# Altium integrated library Analog Devices Data Converters Analog-to-Digital Converters.IntLib: 2404 symbols (part 292 of 346)
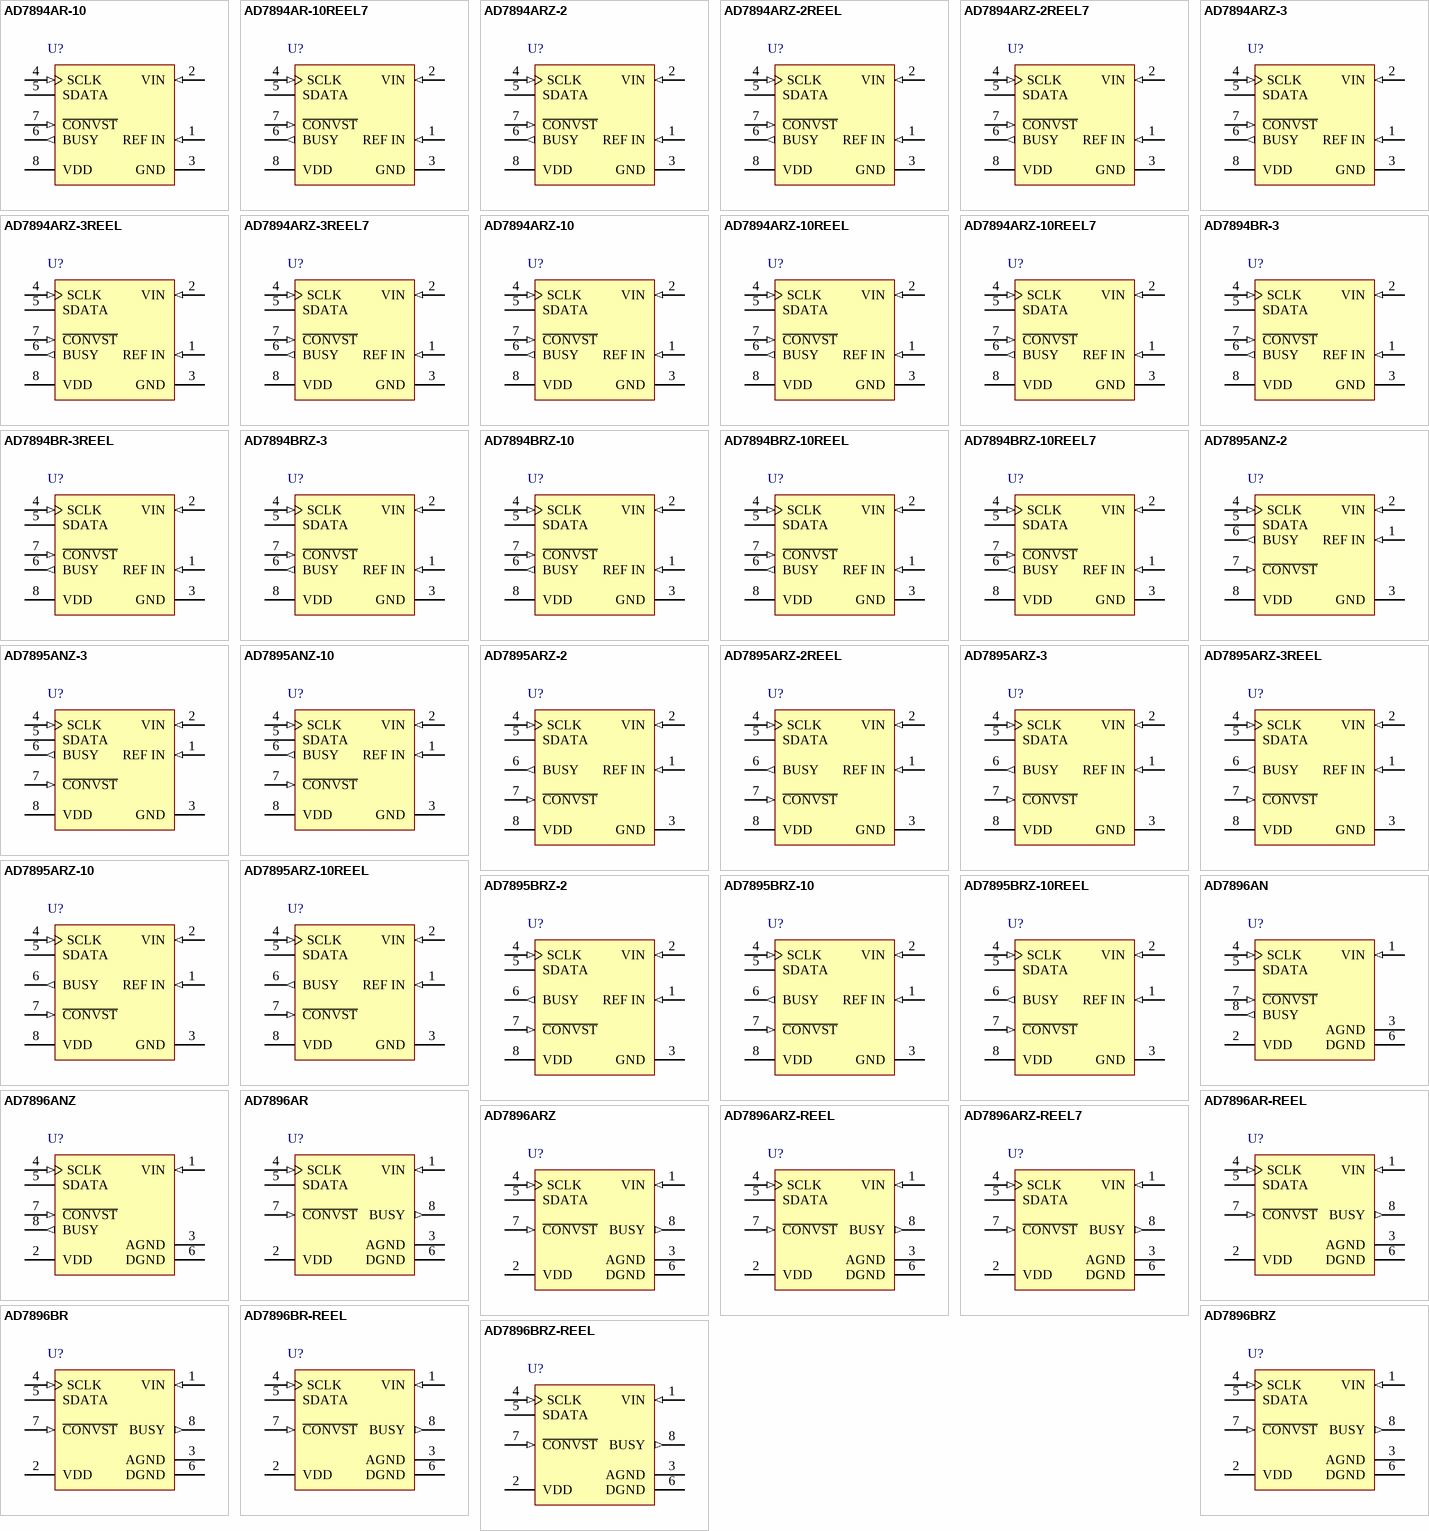
[diagram p411: symbols AD7894AR-10 to AD7896BRZ-REEL]

## AD7894AR-10REEL7
designator U?
Single 14-Bit Analog-to-Digital Converter with Serial Interface, 5 us, 200KSPS, -40 to +85 degC, R-8, Reel; Generic Part Number: AD7894; Manufacturer: Analog Devices; PartNumber: AD7894AR-10REEL7; Resolution (Bits): 14; Channels: 1; Throughput Rate (SPS): 200K; Interface: Ser; DatasheetVersion: Rev.0; PackageVersion: 060506-A; PackageReference: R-8; PackageDescription: 8-Lead Standard Small Outline Package [SOIC_N] Narrow Body; Supplier 1: Digi-Key; Supplier Part Number 1: AD7894AR-10REEL7-ND; Supplier 2: Mouser; Supplier Part Number 2: 584-AD7894AR-10R7; RoHS: N; Packing: Reel; Mounting Technology: Surface Mount; Code_JEDEC: MS-012-AA; Code_IPC: SOIC127P600-8; ComponentLink1Description: Manufacturer URL; ComponentLink1URL: http://www.analog.com/en/index.html; ComponentLink2Description: Datasheet; ComponentLink2URL: http://www.analog.com/static/imported-files/data_sheets/AD7894.pdf; ComponentLink3Description: Package Specification; ComponentLink3URL: http://www.analog.com/static/imported-files/packages/PKG_PDF/SOIC_Narrow%20(R)/R_8.pdf; ComponentLink4Description: Product URL; ComponentLink4URL: http://www.analog.com/en/analog-to-digital-converters/ad-converters/ad7894/products/product.html
footprint R-8_N (SOIC, 8-Leads, Body 4.9x3.9mm, Pitch 1.27mm, IPC Medium Density)
footprint R-8_L (SOIC, 8-Leads, Body 4.9x3.9mm, Pitch 1.27mm, IPC High Density)
footprint R-8_M (SOIC, 8-Leads, Body 4.9x3.9mm, Pitch 1.27mm, IPC Low Density)
pins: 1 REF IN (in) "Voltage Reference Input. An external reference source should be connected to this pin to provide the reference voltage for the AD7894’s conversion process. The REF IN input is buffered on-chip. The nominal reference voltage (See Datasheet)", 2 VIN (in) "Analog Input Channel. The analog input range is +/-10 V (AD7894-10), +/-2.5 V (AD7894-3) and 0 V to +2.5ÊV (AD7894-2).", 3 GND (power) "Analog Ground. Ground reference for track/hold, comparator, digital circuitry and DAC.", 4 SCLK (in) "SCLK Serial Clock Input. An external serial clock is applied to this input to obtain serial data from the AD7894.A new serial data bit is clocked out on the falling edge of this serial clock. Data is guaranteed valid for 10 (See Datasheet)", 5 SDATA (hiz) "Serial Data Output. Serial data from the AD7894 is provided at this output. The serial data is clocked out by the falling edge of SCLK, but the data can also be read on the falling edge of SCLK. This is possible because data (See Datasheet)", 6 BUSY (out) "The BUSY pin is used to indicate when the part is doing a conversion. The BUSY pin will go high on the falling edge of CONVST and will return low when the conversion is complete.", 7 ~{CONVST} (in) "Conversion Start. Edge-triggered logic input. On the falling edge of this input, the track/hold goes into its 7 CONVST Conversion Start. Edge-triggered logic input. On the falling edge of this input, the track/hold goes into (See Datasheet)", 8 VDD (power) "Positive supply voltage, +5 V +/- 5%."

## AD7894ARZ-2
designator U?
Single 14-Bit Analog-to-Digital Converter with Serial Interface, 5 us, 200KSPS, -40 to +85 degC, R-8, Pb-Free, Tube; Generic Part Number: AD7894; Manufacturer: Analog Devices; PartNumber: AD7894ARZ-2; Resolution (Bits): 14; Channels: 1; Throughput Rate (SPS): 200K; Interface: Ser; DatasheetVersion: Rev.0; PackageVersion: 060506-A; PackageReference: R-8; PackageDescription: 8-Lead Standard Small Outline Package [SOIC_N] Narrow Body; Supplier 1: Digi-Key; Supplier Part Number 1: AD7894ARZ-2-ND; Supplier 2: Newark; Supplier Part Number 2: 59K5901; Supplier 3: Mouser; Supplier Part Number 3: 584-AD7894ARZ-2; RoHS: Y; Packing: Tube; Mounting Technology: Surface Mount; Code_JEDEC: MS-012-AA; Code_IPC: SOIC127P600-8; ComponentLink1Description: Manufacturer URL; ComponentLink1URL: http://www.analog.com/en/index.html; ComponentLink2Description: Datasheet; ComponentLink2URL: http://www.analog.com/static/imported-files/data_sheets/AD7894.pdf; ComponentLink3Description: Package Specification; ComponentLink3URL: http://www.analog.com/static/imported-files/packages/PKG_PDF/SOIC_Narrow%20(R)/R_8.pdf; ComponentLink4Description: Product URL; ComponentLink4URL: http://www.analog.com/en/analog-to-digital-converters/ad-converters/ad7894/products/product.html
footprint R-8_N (SOIC, 8-Leads, Body 4.9x3.9mm, Pitch 1.27mm, IPC Medium Density)
footprint R-8_L (SOIC, 8-Leads, Body 4.9x3.9mm, Pitch 1.27mm, IPC High Density)
footprint R-8_M (SOIC, 8-Leads, Body 4.9x3.9mm, Pitch 1.27mm, IPC Low Density)
pins: 1 REF IN (in) "Voltage Reference Input. An external reference source should be connected to this pin to provide the reference voltage for the AD7894’s conversion process. The REF IN input is buffered on-chip. The nominal reference voltage (See Datasheet)", 2 VIN (in) "Analog Input Channel. The analog input range is +/-10 V (AD7894-10), +/-2.5 V (AD7894-3) and 0 V to +2.5ÊV (AD7894-2).", 3 GND (power) "Analog Ground. Ground reference for track/hold, comparator, digital circuitry and DAC.", 4 SCLK (in) "SCLK Serial Clock Input. An external serial clock is applied to this input to obtain serial data from the AD7894.A new serial data bit is clocked out on the falling edge of this serial clock. Data is guaranteed valid for 10 (See Datasheet)", 5 SDATA (hiz) "Serial Data Output. Serial data from the AD7894 is provided at this output. The serial data is clocked out by the falling edge of SCLK, but the data can also be read on the falling edge of SCLK. This is possible because data (See Datasheet)", 6 BUSY (out) "The BUSY pin is used to indicate when the part is doing a conversion. The BUSY pin will go high on the falling edge of CONVST and will return low when the conversion is complete.", 7 ~{CONVST} (in) "Conversion Start. Edge-triggered logic input. On the falling edge of this input, the track/hold goes into its 7 CONVST Conversion Start. Edge-triggered logic input. On the falling edge of this input, the track/hold goes into (See Datasheet)", 8 VDD (power) "Positive supply voltage, +5 V +/- 5%."

## AD7894ARZ-2REEL
designator U?
Single 14-Bit Analog-to-Digital Converter with Serial Interface, 5 us, 200KSPS, -40 to +85 degC, R-8, Pb-Free, Reel; Generic Part Number: AD7894; Manufacturer: Analog Devices; PartNumber: AD7894ARZ-2REEL; Resolution (Bits): 14; Channels: 1; Throughput Rate (SPS): 200K; Interface: Ser; DatasheetVersion: Rev.0; PackageVersion: 060506-A; PackageReference: R-8; PackageDescription: 8-Lead Standard Small Outline Package [SOIC_N] Narrow Body; Supplier 1: Digi-Key; Supplier Part Number 1: AD7894ARZ-2REEL-ND; Supplier 2: Mouser; Supplier Part Number 2: 584-AD7894ARZ-2R; RoHS: Y; Packing: Reel; Mounting Technology: Surface Mount; Code_JEDEC: MS-012-AA; Code_IPC: SOIC127P600-8; ComponentLink1Description: Manufacturer URL; ComponentLink1URL: http://www.analog.com/en/index.html; ComponentLink2Description: Datasheet; ComponentLink2URL: http://www.analog.com/static/imported-files/data_sheets/AD7894.pdf; ComponentLink3Description: Package Specification; ComponentLink3URL: http://www.analog.com/static/imported-files/packages/PKG_PDF/SOIC_Narrow%20(R)/R_8.pdf; ComponentLink4Description: Product URL; ComponentLink4URL: http://www.analog.com/en/analog-to-digital-converters/ad-converters/ad7894/products/product.html
footprint R-8_N (SOIC, 8-Leads, Body 4.9x3.9mm, Pitch 1.27mm, IPC Medium Density)
footprint R-8_L (SOIC, 8-Leads, Body 4.9x3.9mm, Pitch 1.27mm, IPC High Density)
footprint R-8_M (SOIC, 8-Leads, Body 4.9x3.9mm, Pitch 1.27mm, IPC Low Density)
pins: 1 REF IN (in) "Voltage Reference Input. An external reference source should be connected to this pin to provide the reference voltage for the AD7894’s conversion process. The REF IN input is buffered on-chip. The nominal reference voltage (See Datasheet)", 2 VIN (in) "Analog Input Channel. The analog input range is +/-10 V (AD7894-10), +/-2.5 V (AD7894-3) and 0 V to +2.5ÊV (AD7894-2).", 3 GND (power) "Analog Ground. Ground reference for track/hold, comparator, digital circuitry and DAC.", 4 SCLK (in) "SCLK Serial Clock Input. An external serial clock is applied to this input to obtain serial data from the AD7894.A new serial data bit is clocked out on the falling edge of this serial clock. Data is guaranteed valid for 10 (See Datasheet)", 5 SDATA (hiz) "Serial Data Output. Serial data from the AD7894 is provided at this output. The serial data is clocked out by the falling edge of SCLK, but the data can also be read on the falling edge of SCLK. This is possible because data (See Datasheet)", 6 BUSY (out) "The BUSY pin is used to indicate when the part is doing a conversion. The BUSY pin will go high on the falling edge of CONVST and will return low when the conversion is complete.", 7 ~{CONVST} (in) "Conversion Start. Edge-triggered logic input. On the falling edge of this input, the track/hold goes into its 7 CONVST Conversion Start. Edge-triggered logic input. On the falling edge of this input, the track/hold goes into (See Datasheet)", 8 VDD (power) "Positive supply voltage, +5 V +/- 5%."

## AD7894ARZ-2REEL7
designator U?
Single 14-Bit Analog-to-Digital Converter with Serial Interface, 5 us, 200KSPS, -40 to +85 degC, R-8, Pb-Free, Reel; Generic Part Number: AD7894; Manufacturer: Analog Devices; PartNumber: AD7894ARZ-2REEL7; Resolution (Bits): 14; Channels: 1; Throughput Rate (SPS): 200K; Interface: Ser; DatasheetVersion: Rev.0; PackageVersion: 060506-A; PackageReference: R-8; PackageDescription: 8-Lead Standard Small Outline Package [SOIC_N] Narrow Body; Supplier 1: Digi-Key; Supplier Part Number 1: AD7894ARZ-2REEL7-ND; Supplier 2: Mouser; Supplier Part Number 2: 584-AD7894ARZ-2R7; RoHS: Y; Packing: Reel; Mounting Technology: Surface Mount; Code_JEDEC: MS-012-AA; Code_IPC: SOIC127P600-8; ComponentLink1Description: Manufacturer URL; ComponentLink1URL: http://www.analog.com/en/index.html; ComponentLink2Description: Datasheet; ComponentLink2URL: http://www.analog.com/static/imported-files/data_sheets/AD7894.pdf; ComponentLink3Description: Package Specification; ComponentLink3URL: http://www.analog.com/static/imported-files/packages/PKG_PDF/SOIC_Narrow%20(R)/R_8.pdf; ComponentLink4Description: Product URL; ComponentLink4URL: http://www.analog.com/en/analog-to-digital-converters/ad-converters/ad7894/products/product.html
footprint R-8_N (SOIC, 8-Leads, Body 4.9x3.9mm, Pitch 1.27mm, IPC Medium Density)
footprint R-8_L (SOIC, 8-Leads, Body 4.9x3.9mm, Pitch 1.27mm, IPC High Density)
footprint R-8_M (SOIC, 8-Leads, Body 4.9x3.9mm, Pitch 1.27mm, IPC Low Density)
pins: 1 REF IN (in) "Voltage Reference Input. An external reference source should be connected to this pin to provide the reference voltage for the AD7894’s conversion process. The REF IN input is buffered on-chip. The nominal reference voltage (See Datasheet)", 2 VIN (in) "Analog Input Channel. The analog input range is +/-10 V (AD7894-10), +/-2.5 V (AD7894-3) and 0 V to +2.5ÊV (AD7894-2).", 3 GND (power) "Analog Ground. Ground reference for track/hold, comparator, digital circuitry and DAC.", 4 SCLK (in) "SCLK Serial Clock Input. An external serial clock is applied to this input to obtain serial data from the AD7894.A new serial data bit is clocked out on the falling edge of this serial clock. Data is guaranteed valid for 10 (See Datasheet)", 5 SDATA (hiz) "Serial Data Output. Serial data from the AD7894 is provided at this output. The serial data is clocked out by the falling edge of SCLK, but the data can also be read on the falling edge of SCLK. This is possible because data (See Datasheet)", 6 BUSY (out) "The BUSY pin is used to indicate when the part is doing a conversion. The BUSY pin will go high on the falling edge of CONVST and will return low when the conversion is complete.", 7 ~{CONVST} (in) "Conversion Start. Edge-triggered logic input. On the falling edge of this input, the track/hold goes into its 7 CONVST Conversion Start. Edge-triggered logic input. On the falling edge of this input, the track/hold goes into (See Datasheet)", 8 VDD (power) "Positive supply voltage, +5 V +/- 5%."

## AD7894ARZ-3
designator U?
Single 14-Bit Analog-to-Digital Converter with Serial Interface, 5 us, 200KSPS, -40 to +85 degC, R-8, Pb-Free, Tube; Generic Part Number: AD7894; Manufacturer: Analog Devices; PartNumber: AD7894ARZ-3; Resolution (Bits): 14; Channels: 1; Throughput Rate (SPS): 200K; Interface: Ser; DatasheetVersion: Rev.0; PackageVersion: 060506-A; PackageReference: R-8; PackageDescription: 8-Lead Standard Small Outline Package [SOIC_N] Narrow Body; Supplier 1: Digi-Key; Supplier Part Number 1: AD7894ARZ-3-ND; Supplier 2: Newark; Supplier Part Number 2: 59K5904; Supplier 3: Mouser; Supplier Part Number 3: 584-AD7894ARZ-3; RoHS: Y; Packing: Tube; Mounting Technology: Surface Mount; Code_JEDEC: MS-012-AA; Code_IPC: SOIC127P600-8; ComponentLink1Description: Manufacturer URL; ComponentLink1URL: http://www.analog.com/en/index.html; ComponentLink2Description: Datasheet; ComponentLink2URL: http://www.analog.com/static/imported-files/data_sheets/AD7894.pdf; ComponentLink3Description: Package Specification; ComponentLink3URL: http://www.analog.com/static/imported-files/packages/PKG_PDF/SOIC_Narrow%20(R)/R_8.pdf; ComponentLink4Description: Product URL; ComponentLink4URL: http://www.analog.com/en/analog-to-digital-converters/ad-converters/ad7894/products/product.html
footprint R-8_N (SOIC, 8-Leads, Body 4.9x3.9mm, Pitch 1.27mm, IPC Medium Density)
footprint R-8_L (SOIC, 8-Leads, Body 4.9x3.9mm, Pitch 1.27mm, IPC High Density)
footprint R-8_M (SOIC, 8-Leads, Body 4.9x3.9mm, Pitch 1.27mm, IPC Low Density)
pins: 1 REF IN (in) "Voltage Reference Input. An external reference source should be connected to this pin to provide the reference voltage for the AD7894’s conversion process. The REF IN input is buffered on-chip. The nominal reference voltage (See Datasheet)", 2 VIN (in) "Analog Input Channel. The analog input range is +/-10 V (AD7894-10), +/-2.5 V (AD7894-3) and 0 V to +2.5ÊV (AD7894-2).", 3 GND (power) "Analog Ground. Ground reference for track/hold, comparator, digital circuitry and DAC.", 4 SCLK (in) "SCLK Serial Clock Input. An external serial clock is applied to this input to obtain serial data from the AD7894.A new serial data bit is clocked out on the falling edge of this serial clock. Data is guaranteed valid for 10 (See Datasheet)", 5 SDATA (hiz) "Serial Data Output. Serial data from the AD7894 is provided at this output. The serial data is clocked out by the falling edge of SCLK, but the data can also be read on the falling edge of SCLK. This is possible because data (See Datasheet)", 6 BUSY (out) "The BUSY pin is used to indicate when the part is doing a conversion. The BUSY pin will go high on the falling edge of CONVST and will return low when the conversion is complete.", 7 ~{CONVST} (in) "Conversion Start. Edge-triggered logic input. On the falling edge of this input, the track/hold goes into its 7 CONVST Conversion Start. Edge-triggered logic input. On the falling edge of this input, the track/hold goes into (See Datasheet)", 8 VDD (power) "Positive supply voltage, +5 V +/- 5%."

## AD7894ARZ-3REEL
designator U?
Single 14-Bit Analog-to-Digital Converter with Serial Interface, 5 us, 200KSPS, -40 to +85 degC, R-8, Pb-Free, Reel; Generic Part Number: AD7894; Manufacturer: Analog Devices; PartNumber: AD7894ARZ-3REEL; Resolution (Bits): 14; Channels: 1; Throughput Rate (SPS): 200K; Interface: Ser; DatasheetVersion: Rev.0; PackageVersion: 060506-A; PackageReference: R-8; PackageDescription: 8-Lead Standard Small Outline Package [SOIC_N] Narrow Body; Supplier 1: Digi-Key; Supplier Part Number 1: AD7894ARZ-3REEL-ND; Supplier 2: Newark; Supplier Part Number 2: 59K5905; Supplier 3: Mouser; Supplier Part Number 3: 584-AD7894ARZ-3R; RoHS: Y; Packing: Reel; Mounting Technology: Surface Mount; Code_JEDEC: MS-012-AA; Code_IPC: SOIC127P600-8; ComponentLink1Description: Manufacturer URL; ComponentLink1URL: http://www.analog.com/en/index.html; ComponentLink2Description: Datasheet; ComponentLink2URL: http://www.analog.com/static/imported-files/data_sheets/AD7894.pdf; ComponentLink3Description: Package Specification; ComponentLink3URL: http://www.analog.com/static/imported-files/packages/PKG_PDF/SOIC_Narrow%20(R)/R_8.pdf; ComponentLink4Description: Product URL; ComponentLink4URL: http://www.analog.com/en/analog-to-digital-converters/ad-converters/ad7894/products/product.html
footprint R-8_N (SOIC, 8-Leads, Body 4.9x3.9mm, Pitch 1.27mm, IPC Medium Density)
footprint R-8_L (SOIC, 8-Leads, Body 4.9x3.9mm, Pitch 1.27mm, IPC High Density)
footprint R-8_M (SOIC, 8-Leads, Body 4.9x3.9mm, Pitch 1.27mm, IPC Low Density)
pins: 1 REF IN (in) "Voltage Reference Input. An external reference source should be connected to this pin to provide the reference voltage for the AD7894’s conversion process. The REF IN input is buffered on-chip. The nominal reference voltage (See Datasheet)", 2 VIN (in) "Analog Input Channel. The analog input range is +/-10 V (AD7894-10), +/-2.5 V (AD7894-3) and 0 V to +2.5ÊV (AD7894-2).", 3 GND (power) "Analog Ground. Ground reference for track/hold, comparator, digital circuitry and DAC.", 4 SCLK (in) "SCLK Serial Clock Input. An external serial clock is applied to this input to obtain serial data from the AD7894.A new serial data bit is clocked out on the falling edge of this serial clock. Data is guaranteed valid for 10 (See Datasheet)", 5 SDATA (hiz) "Serial Data Output. Serial data from the AD7894 is provided at this output. The serial data is clocked out by the falling edge of SCLK, but the data can also be read on the falling edge of SCLK. This is possible because data (See Datasheet)", 6 BUSY (out) "The BUSY pin is used to indicate when the part is doing a conversion. The BUSY pin will go high on the falling edge of CONVST and will return low when the conversion is complete.", 7 ~{CONVST} (in) "Conversion Start. Edge-triggered logic input. On the falling edge of this input, the track/hold goes into its 7 CONVST Conversion Start. Edge-triggered logic input. On the falling edge of this input, the track/hold goes into (See Datasheet)", 8 VDD (power) "Positive supply voltage, +5 V +/- 5%."

## AD7894ARZ-3REEL7
designator U?
Single 14-Bit Analog-to-Digital Converter with Serial Interface, 5 us, 200KSPS, -40 to +85 degC, R-8, Pb-Free, Reel; Generic Part Number: AD7894; Manufacturer: Analog Devices; PartNumber: AD7894ARZ-3REEL7; Resolution (Bits): 14; Channels: 1; Throughput Rate (SPS): 200K; Interface: Ser; DatasheetVersion: Rev.0; PackageVersion: 060506-A; PackageReference: R-8; PackageDescription: 8-Lead Standard Small Outline Package [SOIC_N] Narrow Body; Supplier 1: Digi-Key; Supplier Part Number 1: AD7894ARZ-3REEL7-ND; Supplier 2: Newark; Supplier Part Number 2: 59K5906; Supplier 3: Mouser; Supplier Part Number 3: 584-AD7894ARZ-3R7; RoHS: Y; Packing: Reel; Mounting Technology: Surface Mount; Code_JEDEC: MS-012-AA; Code_IPC: SOIC127P600-8; ComponentLink1Description: Manufacturer URL; ComponentLink1URL: http://www.analog.com/en/index.html; ComponentLink2Description: Datasheet; ComponentLink2URL: http://www.analog.com/static/imported-files/data_sheets/AD7894.pdf; ComponentLink3Description: Package Specification; ComponentLink3URL: http://www.analog.com/static/imported-files/packages/PKG_PDF/SOIC_Narrow%20(R)/R_8.pdf; ComponentLink4Description: Product URL; ComponentLink4URL: http://www.analog.com/en/analog-to-digital-converters/ad-converters/ad7894/products/product.html
footprint R-8_N (SOIC, 8-Leads, Body 4.9x3.9mm, Pitch 1.27mm, IPC Medium Density)
footprint R-8_L (SOIC, 8-Leads, Body 4.9x3.9mm, Pitch 1.27mm, IPC High Density)
footprint R-8_M (SOIC, 8-Leads, Body 4.9x3.9mm, Pitch 1.27mm, IPC Low Density)
pins: 1 REF IN (in) "Voltage Reference Input. An external reference source should be connected to this pin to provide the reference voltage for the AD7894’s conversion process. The REF IN input is buffered on-chip. The nominal reference voltage (See Datasheet)", 2 VIN (in) "Analog Input Channel. The analog input range is +/-10 V (AD7894-10), +/-2.5 V (AD7894-3) and 0 V to +2.5ÊV (AD7894-2).", 3 GND (power) "Analog Ground. Ground reference for track/hold, comparator, digital circuitry and DAC.", 4 SCLK (in) "SCLK Serial Clock Input. An external serial clock is applied to this input to obtain serial data from the AD7894.A new serial data bit is clocked out on the falling edge of this serial clock. Data is guaranteed valid for 10 (See Datasheet)", 5 SDATA (hiz) "Serial Data Output. Serial data from the AD7894 is provided at this output. The serial data is clocked out by the falling edge of SCLK, but the data can also be read on the falling edge of SCLK. This is possible because data (See Datasheet)", 6 BUSY (out) "The BUSY pin is used to indicate when the part is doing a conversion. The BUSY pin will go high on the falling edge of CONVST and will return low when the conversion is complete.", 7 ~{CONVST} (in) "Conversion Start. Edge-triggered logic input. On the falling edge of this input, the track/hold goes into its 7 CONVST Conversion Start. Edge-triggered logic input. On the falling edge of this input, the track/hold goes into (See Datasheet)", 8 VDD (power) "Positive supply voltage, +5 V +/- 5%."

## AD7894ARZ-10
designator U?
Single 14-Bit Analog-to-Digital Converter with Serial Interface, 5 us, 200KSPS, -40 to +85 degC, R-8, Pb-Free, Tube; Generic Part Number: AD7894; Manufacturer: Analog Devices; PartNumber: AD7894ARZ-10; Resolution (Bits): 14; Channels: 1; Throughput Rate (SPS): 200K; Interface: Ser; DatasheetVersion: Rev.0; PackageVersion: 060506-A; PackageReference: R-8; PackageDescription: 8-Lead Standard Small Outline Package [SOIC_N] Narrow Body; Supplier 1: Digi-Key; Supplier Part Number 1: AD7894ARZ-10-ND; Supplier 2: Newark; Supplier Part Number 2: 59K5898; Supplier 3: Mouser; Supplier Part Number 3: 584-AD7894ARZ-10; RoHS: Y; Packing: Tube; Mounting Technology: Surface Mount; Code_JEDEC: MS-012-AA; Code_IPC: SOIC127P600-8; ComponentLink1Description: Manufacturer URL; ComponentLink1URL: http://www.analog.com/en/index.html; ComponentLink2Description: Datasheet; ComponentLink2URL: http://www.analog.com/static/imported-files/data_sheets/AD7894.pdf; ComponentLink3Description: Package Specification; ComponentLink3URL: http://www.analog.com/static/imported-files/packages/PKG_PDF/SOIC_Narrow%20(R)/R_8.pdf; ComponentLink4Description: Product URL; ComponentLink4URL: http://www.analog.com/en/analog-to-digital-converters/ad-converters/ad7894/products/product.html
footprint R-8_N (SOIC, 8-Leads, Body 4.9x3.9mm, Pitch 1.27mm, IPC Medium Density)
footprint R-8_L (SOIC, 8-Leads, Body 4.9x3.9mm, Pitch 1.27mm, IPC High Density)
footprint R-8_M (SOIC, 8-Leads, Body 4.9x3.9mm, Pitch 1.27mm, IPC Low Density)
pins: 1 REF IN (in) "Voltage Reference Input. An external reference source should be connected to this pin to provide the reference voltage for the AD7894’s conversion process. The REF IN input is buffered on-chip. The nominal reference voltage (See Datasheet)", 2 VIN (in) "Analog Input Channel. The analog input range is +/-10 V (AD7894-10), +/-2.5 V (AD7894-3) and 0 V to +2.5ÊV (AD7894-2).", 3 GND (power) "Analog Ground. Ground reference for track/hold, comparator, digital circuitry and DAC.", 4 SCLK (in) "SCLK Serial Clock Input. An external serial clock is applied to this input to obtain serial data from the AD7894.A new serial data bit is clocked out on the falling edge of this serial clock. Data is guaranteed valid for 10 (See Datasheet)", 5 SDATA (hiz) "Serial Data Output. Serial data from the AD7894 is provided at this output. The serial data is clocked out by the falling edge of SCLK, but the data can also be read on the falling edge of SCLK. This is possible because data (See Datasheet)", 6 BUSY (out) "The BUSY pin is used to indicate when the part is doing a conversion. The BUSY pin will go high on the falling edge of CONVST and will return low when the conversion is complete.", 7 ~{CONVST} (in) "Conversion Start. Edge-triggered logic input. On the falling edge of this input, the track/hold goes into its 7 CONVST Conversion Start. Edge-triggered logic input. On the falling edge of this input, the track/hold goes into (See Datasheet)", 8 VDD (power) "Positive supply voltage, +5 V +/- 5%."